# Altium footprint library USB_A_M_TH_V.PcbLib: 1 footprints
Each footprint in its own frame and in the unit in brackets; x right, y up, seen from the top. Pads: shape width x height; smd on the part's side, far side on the other; paste and mask are expansions set on the pad; w line width, h text height; cw(c..) or ccw(c..) is an arc to the next point about the centre after c.
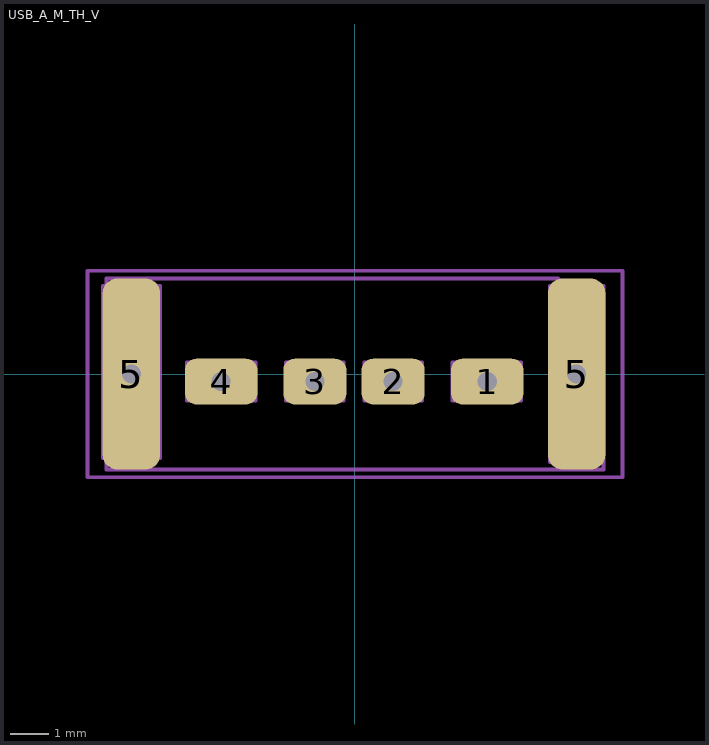
[diagram p0: the footprint, top view; thin cyan lines are the x and y axes]

## USB_A_M_TH_V [mm]
pads (6):
  rrect50% 1.9x1.2 hole 0.5 square: 1(3.46,-0.2) 4(-3.5,-0.2)
  rrect50% 1.65x1.2 hole 0.5 square: 2(1,-0.2) 3(-1.05,-0.2)
  rrect50% 1.5x5 hole 0.5 square: 5(-5.85,0) 5(5.8,0)
Mechanical 3:
  lines w0.1: -6.5,-2.5 6.5,-2.5 6.5,1.32 5.32,2.5 -6.5,2.5 -6.5,-2.5
Mechanical 5:
  lines w0.1: -7,-2.7 -7,2.7 7,2.7 7,-2.7 -7,-2.7 ; -6.6,-2.2 -5.1,-2.2 -5.1,2.3 -6.6,2.3 -6.6,-2.2 ; -4.4,-0.7 -2.6,-0.7 -2.6,0.3 -4.4,0.3 -4.4,0.15 -4.4,-0.7 ; -1.8,-0.7 -0.3,-0.7 -0.3,0.3 -1.8,0.3 -1.8,0.15 -1.8,-0.7 ; 0.25,-0.7 1.75,-0.7 1.75,0.3 0.25,0.3 0.25,0.15 0.25,-0.7 ; 2.55,-0.7 4.35,-0.7 4.35,0.3 2.55,0.3 2.55,0.15 2.55,-0.7 ; 5.1,-2.3 6.5,-2.3 6.5,2.3 5.1,2.3 5.1,-2.3
Mechanical 7:
  lines w0.1: -7,-2.7 7,-2.7 7,2.7 -7,2.7 -7,-2.7
Mechanical 9:
  text "'.Designator'" at -5.7,-1.9 h1
3D body: height 1, standoff 0, extent -7,-2.7 7,2.7